# Altium footprint library CAPPRD750W80D1600H1500.PcbLib: 1 footprints
Each footprint in its own frame and in the unit in brackets; x right, y up, seen from the top. Pads: shape width x height; smd on the part's side, far side on the other; paste and mask are expansions set on the pad; w line width, h text height; cw(c..) or ccw(c..) is an arc to the next point about the centre after c.
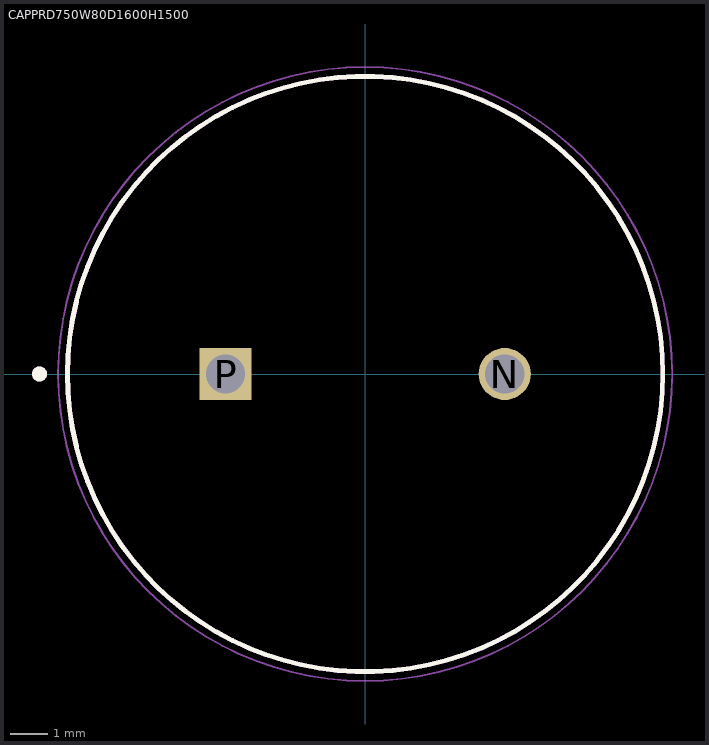
[diagram p0: the footprint, top view; thin cyan lines are the x and y axes]

## CAPPRD750W80D1600H1500 [mm]
pads (2):
  round 1.4 hole 1.05: N(3.75,0)
  rect 1.4x1.4 hole 1.05: P(-3.75,0)
Top Overlay:
  circle w0.2: c-8.75,0 r0.1
  circle w0.127: c0,0 r8
Mechanical 13:
  circle w0.2: c-8.75,0 r0.1
  circle w0.127: c0,0 r8
Mechanical 15:
  circle w0.05: c0,0 r8.25
3D body "step_temp.STEP": height 15, standoff -17, extent -8,-7.997 8,7.997